# Altium schematic symbol library ESP_PRJ.SchLib: 5 symbols
Pins are listed as number, name and electrical type; pins without a type are passive.

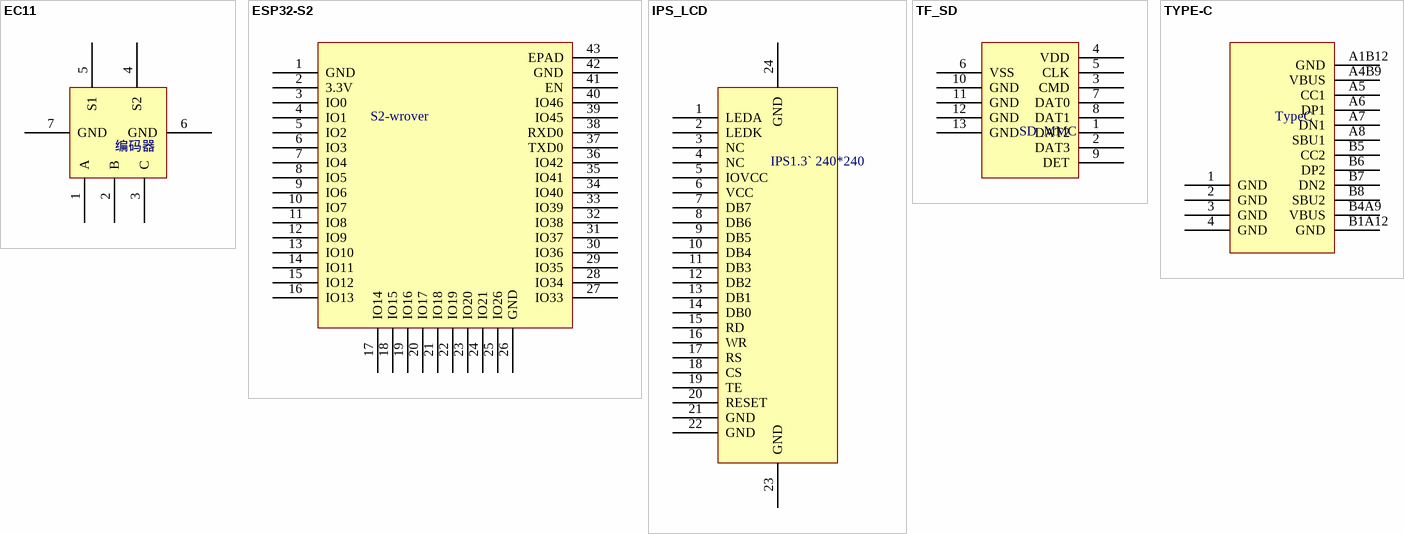
[diagram p0: symbols EC11 to TYPE-C]

## EC11
designator ?, comment 编码器
pins: 1 A, 2 B, 3 C, 4 S2, 5 S1, 6 GND, 7 GND

## ESP32-S2
designator ?, comment S2-wrover
pins: 1 GND, 2 3.3V, 3 IO0, 4 IO1, 5 IO2, 6 IO3, 7 IO4, 8 IO5, 9 IO6, 10 IO7, 11 IO8, 12 IO9, 13 IO10, 14 IO11, 15 IO12, 16 IO13, 17 IO14, 18 IO15, 19 IO16, 20 IO17, 21 IO18, 22 IO19, 23 IO20, 24 IO21, 25 IO26, 26 GND, 27 IO33, 28 IO34, 29 IO35, 30 IO36, 31 IO37, 32 IO38, 33 IO39, 34 IO40, 35 IO41, 36 IO42, 37 TXD0, 38 RXD0, 39 IO45, 40 IO46, 41 EN, 42 GND, 43 EPAD

## IPS_LCD
designator ?, comment IPS1.3` 240*240
pins: 1 LEDA, 2 LEDK, 3 NC, 4 NC, 5 IOVCC, 6 VCC, 7 DB7, 8 DB6, 9 DB5, 10 DB4, 11 DB3, 12 DB2, 13 DB1, 14 DB0, 15 RD, 16 WR, 17 RS, 18 CS, 19 TE, 20 RESET, 21 GND, 22 GND, 23 GND, 24 GND

## TF_SD
designator ?, comment SD_MMC
pins: 1 DAT2, 2 DAT3, 3 CMD, 4 VDD, 5 CLK, 6 VSS, 7 DAT0, 8 DAT1, 9 DET, 10 GND, 11 GND, 12 GND, 13 GND

## TYPE-C
designator ?, comment TypeC
pins: 1 GND, 2 GND, 3 GND, 4 GND, A1B12 GND, A4B9 VBUS, A5 CC1, A6 DP1, A7 DN1, A8 SBU1, B1A12 GND, B4A9 VBUS, B5 CC2, B6 DP2, B7 DN2, B8 SBU2